# EAGLE library part 750845151 (library Wurth Electronics Midcom Inc - EAGLE Lib V2-1)
Package Style: EF20 Mounting: THT Pins: 7 pins Bobbin: 070-5833 Best pinouts for production vary per application. Please contact Wurth Electronics Midcom, Inc. for assistance with your custom design. Website: Wurth Electronics Midcom <http://www.we-online.com/midcom> Contact us Wurth Electronics Midcom, Inc. 121 Airport Dr. Watertown, SD 57201 Phone: (605) 886-4385 Fax: (605) 886-4486 E-Mail: midcom@we-online.com
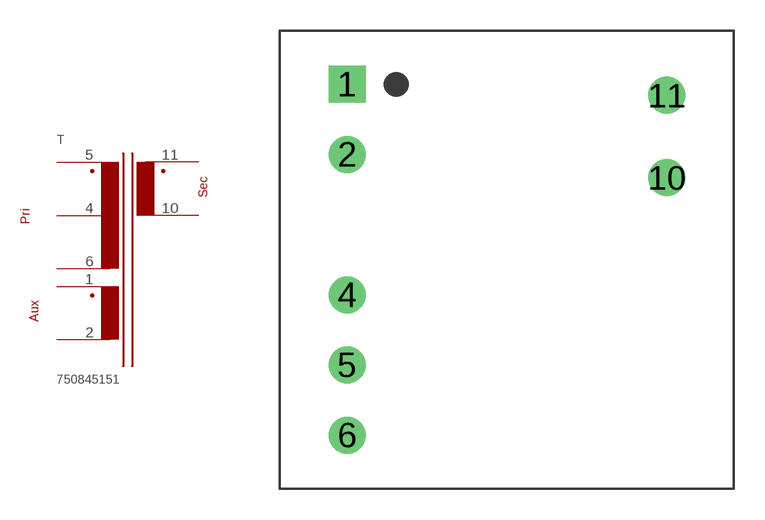
[diagram p255: symbol with the pads of EF20_THT_H_7PIN_(5833); footprint EF20_THT_H_7PIN_(5833)]

Designator prefix T

## 750845151  [EF20_THT_H_7PIN_(5833)]
1  1  pas
2  2  pas
4  4  pas
5  5  pas
6  6  pas
10  10  pas
11  11  pas

## Footprint EF20_THT_H_7PIN_(5833) (pad centres in mm)
Package Style: EF20 Mounting: THT Pins: 11 Bobbin: 070-5833
drill 1.194 square: 1 -7.747,8.509
drill 1.194: 2 -7.747,5.105; 4 -7.747,-1.702; 5 -7.747,-5.105; 6 -7.747,-8.509; 10 7.747,3.988; 11 7.747,7.976